# EAGLE library part ITT-RT206 (library switchmodified)
ROTARY SWITCH ITT-Cannon
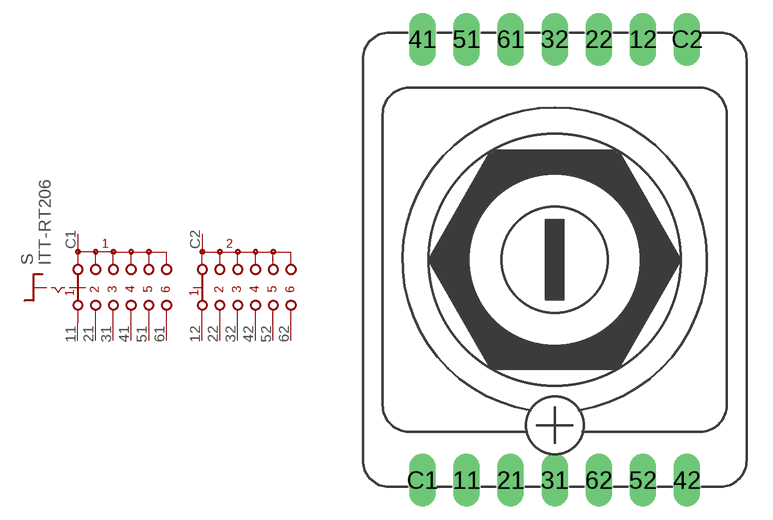
[diagram p10: symbol with the pads of ITT-RT206; footprint ITT-RT206]

Designator prefix S

## ITT-RT206  [ITT-RT206]
11  11  pas
12  12  pas
21  21  pas
22  22  pas
31  31  pas
32  32  pas
41  41  pas
42  42  pas
51  51  pas
52  52  pas
61  61  pas
62  62  pas
C1  S1  pas
C2  S2  pas

## Footprint ITT-RT206 (pad centres in mm)
ROTARY SWITCH ITT-Cannon
drill 1.016 long: 11 -5.08,-12.7; 12 5.08,12.7; 21 -2.54,-12.7; 22 2.54,12.7; 31 0,-12.7; 32 0,12.7; 41 -7.62,12.7; 42 7.62,-12.7; 51 -5.08,12.7; 52 5.08,-12.7; 61 -2.54,12.7; 62 2.54,-12.7; C1 -7.62,-12.7; C2 7.62,12.7